# EAGLE library part NRF24L01P-MODULE (library RCboat)
NRF24L01P-MODULE
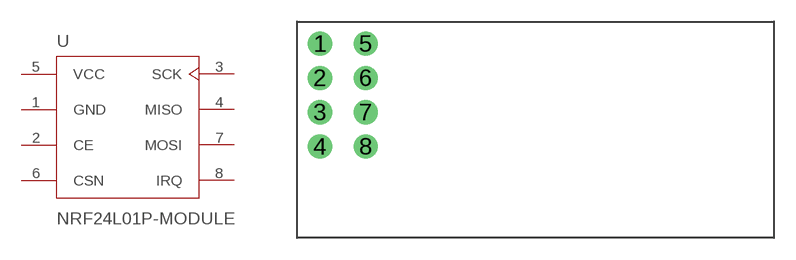
[diagram p2: symbol with the pads of NRF24L01P-MODULE; footprint NRF24L01P-MODULE]

Designator prefix U

## NRF24L01P-MODULE  [NRF24L01P-MODULE]
1  GND  pwr
2  CE  in
3  SCK  in
4  MISO  in
5  VCC  pwr
6  CSN  in
7  MOSI  in
8  IRQ  in

## Footprint NRF24L01P-MODULE (pad centres in mm)
drill 1.02 pad 1.676: 1 1.59,13.515; 2 1.59,11.13; 3 1.59,8.745; 4 1.59,6.36; 5 4.77,13.515; 6 4.77,11.13; 7 4.77,8.745; 8 4.77,6.36